# Altium schematic symbol library MCU.SchLib: 12 symbols
Pins are listed as number, name and electrical type; pins without a type are passive.

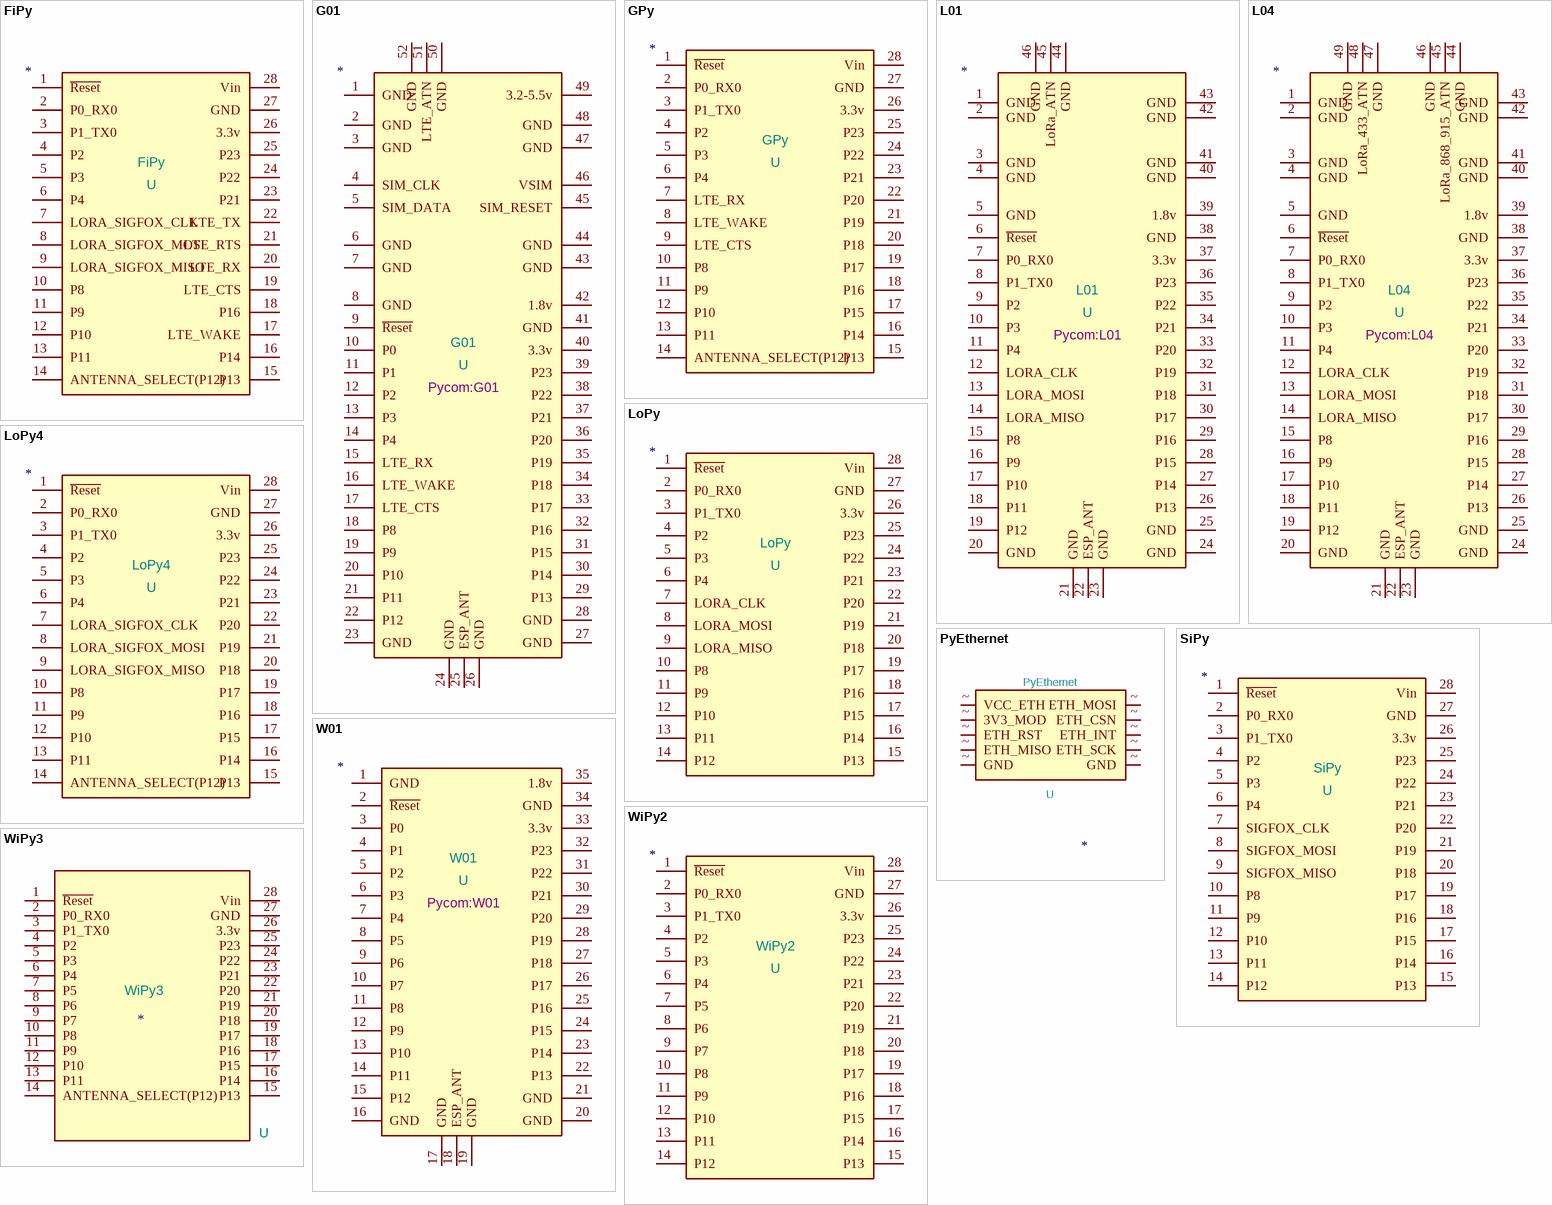
[diagram p0: symbols FiPy to WiPy3]

## FiPy
designator U  value FiPy
pins: 1 ~{Reset}, 2 P0_RX0, 3 P1_TX0, 4 P2, 5 P3, 6 P4, 7 LORA_SIGFOX_CLK, 8 LORA_SIGFOX_MOSI, 9 LORA_SIGFOX_MISO, 10 P8, 11 P9, 12 P10, 13 P11, 14 ANTENNA_SELECT(P12), 15 P13, 16 P14, 17 LTE_WAKE, 18 P16, 19 LTE_CTS, 20 LTE_RX, 21 LTE_RTS, 22 LTE_TX, 23 P21, 24 P22, 25 P23, 26 3.3v, 27 GND, 28 Vin

## G01
designator U  value G01  Footprint: Pycom:G01
footprint G01
pins: 1 GND, 2 GND, 3 GND, 4 SIM_CLK, 5 SIM_DATA, 6 GND, 7 GND, 8 GND, 9 ~{Reset}, 10 P0, 11 P1, 12 P2, 13 P3, 14 P4, 15 LTE_RX, 16 LTE_WAKE, 17 LTE_CTS, 18 P8, 19 P9, 20 P10, 21 P11, 22 P12, 23 GND, 24 GND, 25 ESP_ANT, 26 GND, 27 GND, 28 GND, 29 P13, 30 P14, 31 P15, 32 P16, 33 P17, 34 P18, 35 P19, 36 P20, 37 P21, 38 P22, 39 P23, 40 3.3v, 41 GND, 42 1.8v, 43 GND, 44 GND, 45 SIM_RESET, 46 VSIM, 47 GND, 48 GND, 49 3.2-5.5v, 50 GND, 51 LTE_ATN, 52 GND

## GPy
designator U  value GPy
pins: 1 ~{Reset}, 2 P0_RX0, 3 P1_TX0, 4 P2, 5 P3, 6 P4, 7 LTE_RX, 8 LTE_WAKE, 9 LTE_CTS, 10 P8, 11 P9, 12 P10, 13 P11, 14 ANTENNA_SELECT(P12), 15 P13, 16 P14, 17 P15, 18 P16, 19 P17, 20 P18, 21 P19, 22 P20, 23 P21, 24 P22, 25 P23, 26 3.3v, 27 GND, 28 Vin

## L01
designator U  value L01  Footprint: Pycom:L01
footprint L01
pins: 1 GND, 2 GND, 3 GND, 4 GND, 5 GND, 6 ~{Reset}, 7 P0_RX0, 8 P1_TX0, 9 P2, 10 P3, 11 P4, 12 LORA_CLK, 13 LORA_MOSI, 14 LORA_MISO, 15 P8, 16 P9, 17 P10, 18 P11, 19 P12, 20 GND, 21 GND, 22 ESP_ANT, 23 GND, 24 GND, 25 GND, 26 P13, 27 P14, 28 P15, 29 P16, 30 P17, 31 P18, 32 P19, 33 P20, 34 P21, 35 P22, 36 P23, 37 3.3v, 38 GND, 39 1.8v, 40 GND, 41 GND, 42 GND, 43 GND, 44 GND, 45 LoRa_ATN, 46 GND

## L04
designator U  value L04  Footprint: Pycom:L04
footprint L04
pins: 1 GND, 2 GND, 3 GND, 4 GND, 5 GND, 6 ~{Reset}, 7 P0_RX0, 8 P1_TX0, 9 P2, 10 P3, 11 P4, 12 LORA_CLK, 13 LORA_MOSI, 14 LORA_MISO, 15 P8, 16 P9, 17 P10, 18 P11, 19 P12, 20 GND, 21 GND, 22 ESP_ANT, 23 GND, 24 GND, 25 GND, 26 P13, 27 P14, 28 P15, 29 P16, 30 P17, 31 P18, 32 P19, 33 P20, 34 P21, 35 P22, 36 P23, 37 3.3v, 38 GND, 39 1.8v, 40 GND, 41 GND, 42 GND, 43 GND, 44 GND, 45 LoRa_868_915_ATN, 46 GND, 47 GND, 48 LoRa_433_ATN, 49 GND

## LoPy
designator U  value LoPy
pins: 1 ~{Reset}, 2 P0_RX0, 3 P1_TX0, 4 P2, 5 P3, 6 P4, 7 LORA_CLK, 8 LORA_MOSI, 9 LORA_MISO, 10 P8, 11 P9, 12 P10, 13 P11, 14 P12, 15 P13, 16 P14, 17 P15, 18 P16, 19 P17, 20 P18, 21 P19, 22 P20, 23 P21, 24 P22, 25 P23, 26 3.3v, 27 GND, 28 Vin

## LoPy4
designator U  value LoPy4
pins: 1 ~{Reset}, 2 P0_RX0, 3 P1_TX0, 4 P2, 5 P3, 6 P4, 7 LORA_SIGFOX_CLK, 8 LORA_SIGFOX_MOSI, 9 LORA_SIGFOX_MISO, 10 P8, 11 P9, 12 P10, 13 P11, 14 ANTENNA_SELECT(P12), 15 P13, 16 P14, 17 P15, 18 P16, 19 P17, 20 P18, 21 P19, 22 P20, 23 P21, 24 P22, 25 P23, 26 3.3v, 27 GND, 28 Vin

## PyEthernet
designator U  value PyEthernet
Footprint: Pycom:PyEthernet
footprint PyEthernet
pins: ~ 3V3_MOD, ~ ETH_CSN, ~ ETH_INT, ~ ETH_MISO, ~ ETH_MOSI, ~ ETH_RST, ~ ETH_SCK, ~ GND, ~ GND, ~ VCC_ETH

## SiPy
designator U  value SiPy
pins: 1 ~{Reset}, 2 P0_RX0, 3 P1_TX0, 4 P2, 5 P3, 6 P4, 7 SIGFOX_CLK, 8 SIGFOX_MOSI, 9 SIGFOX_MISO, 10 P8, 11 P9, 12 P10, 13 P11, 14 P12, 15 P13, 16 P14, 17 P15, 18 P16, 19 P17, 20 P18, 21 P19, 22 P20, 23 P21, 24 P22, 25 P23, 26 3.3v, 27 GND, 28 Vin

## W01
designator U  value W01  Footprint: Pycom:W01
footprint W01
pins: 1 GND, 2 ~{Reset}, 3 P0, 4 P1, 5 P2, 6 P3, 7 P4, 8 P5, 9 P6, 10 P7, 11 P8, 12 P9, 13 P10, 14 P11, 15 P12, 16 GND, 17 GND, 18 ESP_ANT, 19 GND, 20 GND, 21 GND, 22 P13, 23 P14, 24 P15, 25 P16, 26 P17, 27 P18, 28 P19, 29 P20, 30 P21, 31 P22, 32 P23, 33 3.3v, 34 GND, 35 1.8v

## WiPy2
designator U  value WiPy2
pins: 1 ~{Reset}, 2 P0_RX0, 3 P1_TX0, 4 P2, 5 P3, 6 P4, 7 P5, 8 P6, 9 P7, 10 P8, 11 P9, 12 P10, 13 P11, 14 P12, 15 P13, 16 P14, 17 P15, 18 P16, 19 P17, 20 P18, 21 P19, 22 P20, 23 P21, 24 P22, 25 P23, 26 3.3v, 27 GND, 28 Vin

## WiPy3
designator U  value WiPy3
pins: 1 ~{Reset}, 2 P0_RX0, 3 P1_TX0, 4 P2, 5 P3, 6 P4, 7 P5, 8 P6, 9 P7, 10 P8, 11 P9, 12 P10, 13 P11, 14 ANTENNA_SELECT(P12), 15 P13, 16 P14, 17 P15, 18 P16, 19 P17, 20 P18, 21 P19, 22 P20, 23 P21, 24 P22, 25 P23, 26 3.3v, 27 GND, 28 Vin